# Altium schematic symbol library MCP1700-3302E_TO.SchLib: 1 symbol
Pins are listed as number, name and electrical type; pins without a type are passive.

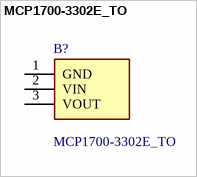
[diagram p0: symbol MCP1700-3302E_TO]

## MCP1700-3302E_TO
designator B?
LDO Voltage Regulators 250mA LDO 2%; Manufacturer_Name: Microchip; Manufacturer_Part_Number: MCP1700-3302E/TO; Geometry.Height: 5.334mm; Mouser Part Number: 579-MCP1700-3302E/TO; Mouser Price/Stock: https://www.mouser.co.uk/ProductDetail/Microchip-Technology/MCP1700-3302E-TO?qs=h7tZ5KkzNMMPEB66r2rMQw%3D%3D; Arrow Part Number: MCP1700-3302E/TO; Arrow Price/Stock: https://www.arrow.com/en/products/mcp1700-3302eto/microchip-technology?utm_currency=USD&region=nac; Datasheet Link: http://ww1.microchip.com/downloads/en/DeviceDoc/MCP1700-Low-Quiescent-Current-LDO-20001826E.pdf
footprint MCP17003302ETO
pins: 1 GND, 2 VIN, 3 VOUT